# Altium footprint library WJ2EDGV.PcbLib: 1 footprints
Each footprint in its own frame and in the unit in brackets; x right, y up, seen from the top. Pads: shape width x height; smd on the part's side, far side on the other; paste and mask are expansions set on the pad; w line width, h text height; cw(c..) or ccw(c..) is an arc to the next point about the centre after c.
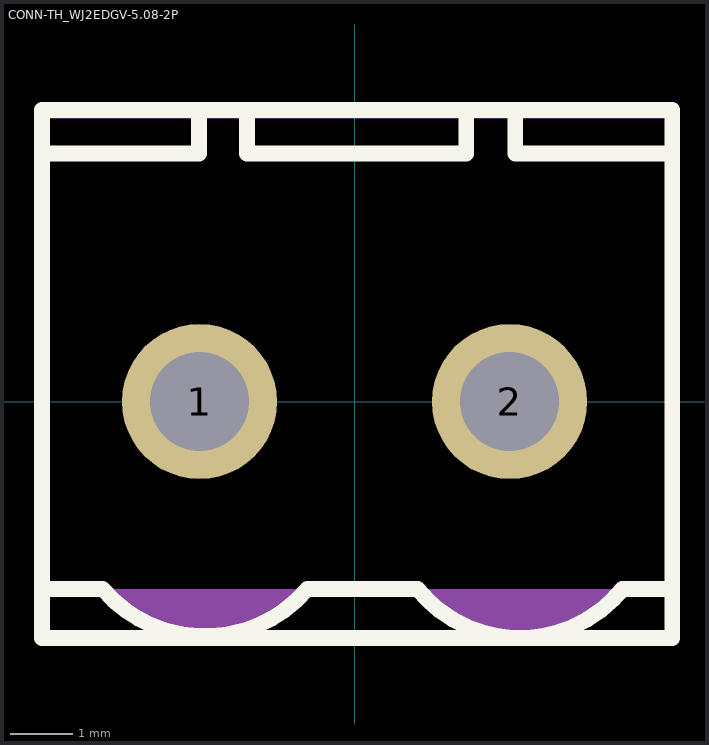
[diagram p0: the footprint, top view; thin cyan lines are the x and y axes]

## CONN-TH_WJ2EDGV-5.08-2P [mm]
pads (2):
  round 2.5 hole 1.6 mask+0.051: 1(-2.499,0) 2(2.499,0)
Top Overlay:
  lines w0.254: -5.039,-3.022 -4.064,-3.022 ccw(c-2.413,-1.615) -0.762,-3.022 1.016,-3.022 ccw(c2.667,-1.687) 4.318,-3.022 5.121,-3.022 ; -5.039,4 -2.509,4 -2.509,4.7 ; -1.736,4.7 -1.736,4 1.8,4 1.8,4.7 ; 2.591,4.7 2.591,4 5.121,4 ; -5.039,-3.81 5.121,-3.81 5.121,4.7 -5.039,4.7 -5.039,3.81 -5.039,-3.81
Mechanical 6:
  region: -4.064,-3.022 -3.962,-3.141 -3.727,-3.348 -3.464,-3.519 -3.18,-3.65 -2.88,-3.739 -2.57,-3.784 -2.256,-3.784 -1.946,-3.739 -1.646,-3.65 -1.362,-3.519 -1.099,-3.348 -0.864,-3.141 -0.762,-3.022
  region: 1.016,-3.022 1.115,-3.145 1.348,-3.358 1.61,-3.535 1.895,-3.671 2.197,-3.763 2.509,-3.81 2.825,-3.81 3.137,-3.763 3.439,-3.671 3.724,-3.535 3.986,-3.358 4.219,-3.145 4.318,-3.022
Mechanical 15:
  region: -2.999,0.5 -1.999,0.5 -1.999,-0.5 -2.999,-0.5
  region: 1.999,0.5 2.999,0.5 2.999,-0.5 1.999,-0.5
  region: -5.02,-3.71 -5.02,-3.685 -5.055,-3.65 -5.105,-3.65 -5.14,-3.685 -5.14,-3.71 -5.14,-3.735 -5.105,-3.77 -5.055,-3.77 -5.02,-3.735 -5.02,-3.71
  lines w0.051: -5.08,-3.71 5.08,-3.71 5.08,4.59 -5.08,4.59 -5.08,-3.71
3D body "WJ2EDGV.STEP": height 13.8, standoff -1.9, extent -5.08,-3.701 5.08,4.6